# Altium schematic symbol library ABX00053.SchLib: 1 symbol
Pins are listed as number, name and electrical type; pins without a type are passive.

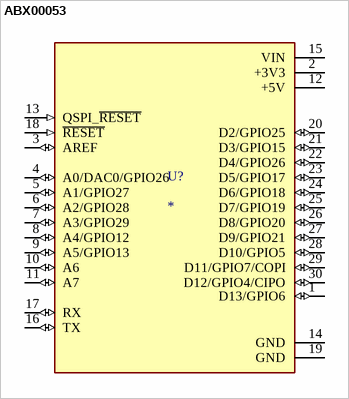
[diagram p0: symbol ABX00053]

## ABX00053
designator U?
NINA-W102, RP2040 Arduino Nano RP2040 Connect with Headers series ARMÂ® CortexÂ®-M0+ MCU 32-Bit Embedded Evaluation Board; MP: ABX00053; Value: *; SnapEDA_Link: https://www.snapeda.com/parts/ABX00053/Arduino/view-part/?ref=snap; MF: Arduino; Purchase-URL: https://pricing.snapeda.com/search/part/ABX00053/?ref=eda; Check_prices: https://www.snapeda.com/parts/ABX00053/Arduino/view-part/?ref=eda; Digi-Key_Part_Number: 1050-ABX00053-ND; Package: None
footprint MODULE_ABX00053
pins: 1 D13/GPIO6 (io), 2 +3V3 (power), 3 AREF (io), 4 A0/DAC0/GPIO26 (io), 5 A1/GPIO27 (io), 6 A2/GPIO28 (io), 7 A3/GPIO29 (io), 8 A4/GPIO12 (io), 9 A5/GPIO13 (io), 10 A6 (io), 11 A7 (io), 12 +5V (power), 13 QSPI_~{RESET} (in), 14 GND (power), 15 VIN (power), 16 TX (io), 17 RX (io), 18 ~{RESET} (in), 19 GND (power), 20 D2/GPIO25 (io), 21 D3/GPIO15 (io), 22 D4/GPIO26 (io), 23 D5/GPIO17 (io), 24 D6/GPIO18 (io), 25 D7/GPIO19 (io), 26 D8/GPIO20 (io), 27 D9/GPIO21 (io), 28 D10/GPIO5 (io), 29 D11/GPIO7/COPI (io), 30 D12/GPIO4/CIPO (io)